# Altium footprint library Daxxn_Connectors.PcbLib: 65 footprints (part 3 of 5)
Each footprint in its own frame and in the unit in brackets; x right, y up, seen from the top. Pads: shape width x height; smd on the part's side, far side on the other; paste and mask are expansions set on the pad; w line width, h text height; cw(c..) or ccw(c..) is an arc to the next point about the centre after c.
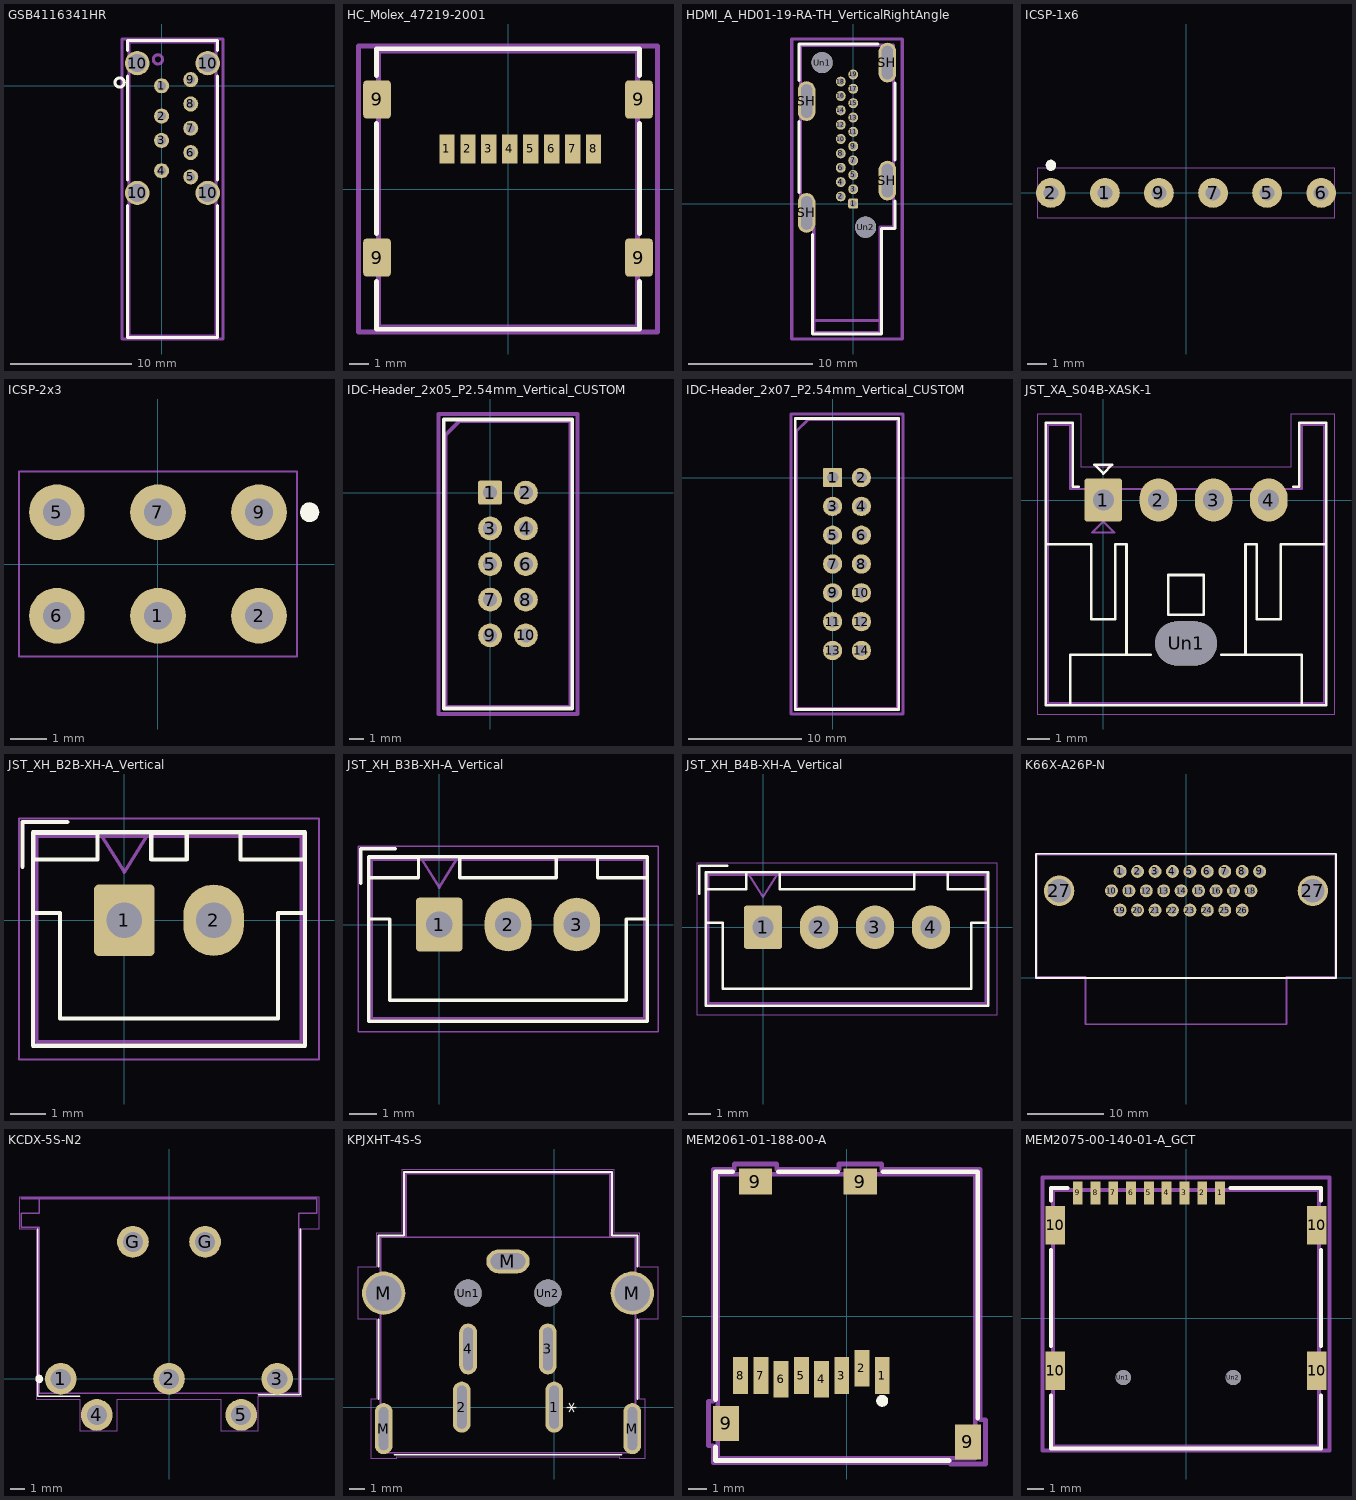
[diagram p2: the footprints below, top view; thin cyan lines are the x and y axes]

## GSB4116341HR [mm]
pads (13):
  round 1.24 hole 0.74: 1(0,0) 2(0,-2.5) 3(0,-4.5) 4(0,-7) 5(2.4,-7.5) 6(2.4,-5.5) 7(2.4,-3.5) 8(2.4,-1.5) 9(2.4,0.5)
  round 2.007 hole 1.499: 10(-2,1.87) 10(-2,-8.83) 10(3.8,-8.83) 10(3.8,1.87)
F.SilkS:
  circle w0.254: c-3.456,0.27 r0.381
  lines w0.254: -2.821,-9.884 -2.821,-20.733 4.621,-20.733 4.621,-9.884 ; -2.821,-7.776 -2.821,0.816 ; -2.821,2.924 -2.821,3.727 4.621,3.727 4.621,2.924 ; 4.621,-7.776 4.621,0.816
B.SilkS:
  circle w0.254: c-3.456,0.27 r0.381
F.CrtYd:
  lines w0.254: -3.257,-20.86 -3.257,3.854 5.057,3.854 5.057,-20.86 -3.257,-20.86
F.Fab:
  circle w0.254: c-0.3,2.175 r0.381
  lines w0.254: -2.694,-20.606 -2.694,3.6 4.494,3.6 4.494,-20.606 -2.694,-20.606

## HC_Molex_47219-2001 [mm]
pads (12):
  rect 0.8x1.5 smd: 1(-3.205,2.1) 2(-2.105,2.1) 3(-1.005,2.1) 4(0.095,2.1) 5(1.195,2.1) 6(2.295,2.1) 7(3.395,2.1) 8(4.495,2.1)
  rrect25% 1.45x2 smd: 9(-6.875,-3.6) 9(-6.875,4.7) 9(6.875,-3.6) 9(6.875,4.7)
F.SilkS:
  lines w0.254: -6.91,-4.86 -6.91,-7.36 6.91,-7.36 6.91,-4.86 ; -6.91,-2.34 -6.91,3.44 ; -6.91,5.96 -6.91,7.36 6.91,7.36 6.91,5.96 ; 6.91,-2.34 6.91,3.44
F.CrtYd:
  lines w0.254: -7.85,-7.5 -7.85,7.5 7.85,7.5 7.85,-7.5 -7.85,-7.5
F.Fab:
  lines w0.254: -6.8,-7.25 -6.8,7.25 6.8,7.25 6.8,-7.25 -6.8,-7.25
  text "'.Designator'" at -4.047,-0.84 h1

## HDMI_A_HD01-19-RA-TH_VerticalRightAngle [mm]
pads (25):
  rrect31% 0.8x0.8 hole 0.55: 1(0,0)
  round 0.8 hole 0.55: 2(-1,0.577) 3(0,1.155) 4(-1,1.733) 5(0,2.31) 6(-1,2.887) 7(0,3.465) 8(-1,4.042) 9(0,4.62) 10(-1,5.198) 11(0,5.775) 12(-1,6.352) 13(0,6.93) 14(-1,7.508) 15(0,8.085) 16(-1,8.662) 17(0,9.24) 18(-1,9.817) 19(0,10.395)
  rrect100% 1.4x3.2 hole 2.7 slot 0.9 at 0 deg: SH(-3.75,-0.75) SH(-3.75,8.25) SH(2.75,1.85) SH(2.75,11.35)
  round 1.7 hole 1.7: Un1(-2.5,11.35) Un2(1,-1.9)
F.SilkS:
  lines w0.254: -4.36,0.9 -4.36,6.6 ; -4.36,9.9 -4.36,12.86 2,12.86 ; -3.285,-2.5 -3.285,-10.51 2.285,-10.51 2.285,-2.01 3.36,-2.01 3.36,0.2 ; 3.36,3.5 3.36,9.7
Dwgs.User:
  lines w0.254: -3.175,-9.4 2.175,-9.4
  text "PCB Edge" at -3.947,-9.317 h1
F.CrtYd:
  lines w0.254: -4.95,-10.9 -4.95,13.25 3.95,13.25 3.95,-10.9 -4.95,-10.9
F.Fab:
  lines w0.254: -4.25,-1.9 -4.25,12.75 3.25,12.75 3.25,-1.9 2.175,-1.9 2.175,-10.4 -3.175,-10.4 -3.175,-1.9 -4.25,-1.9
  text "'.Designator'" at -4.547,-4.84 h1

## ICSP-1x6 [mil]
pads (6):
  round 60 hole 30: 1(-163.58,0) 2(-272.64,0) 5(163.58,0) 6(272.64,0) 7(54.53,0) 9(-54.53,0)
F.SilkS:
  circle w0: c-272.64,55.91 r10
  region: -268.74,65.33 -265.43,63.12 -263.22,59.81 -262.44,55.91 -263.22,52 -265.43,48.7 -268.74,46.49 -272.64,45.71 -276.54,46.49 -279.85,48.7 -282.06,52 -282.83,55.91 -282.06,59.81 -279.85,63.12 -276.54,65.33 -272.64,66.1
F.CrtYd:
  lines w1.97: -300,-50 -300,50 300,50 300,-50 -300,-50
F.Fab:
  text "'.Designator'" at -159.32,22.82 h39.37

## ICSP-2x3 [mil]
pads (6):
  round 60 hole 30: 1(0,-55.91) 2(109.06,-55.91) 5(-109.06,55.91) 6(-109.06,-55.91) 7(0,55.91) 9(109.06,55.91)
F.SilkS:
  circle w0: c163.58,55.91 r10
  region: 167.48,65.33 170.79,63.12 173,59.81 173.78,55.91 173,52 170.79,48.7 167.48,46.49 163.58,45.71 159.68,46.49 156.37,48.7 154.16,52 153.39,55.91 154.16,59.81 156.37,63.12 159.68,65.33 163.58,66.1
F.CrtYd:
  lines w1.97: -150,-100 -150,100 150,100 150,-100 -150,-100
F.Fab:
  text "'.Designator'" at -159.32,131.48 h39.37

## IDC-Header_2x05_P2.54mm_Vertical_CUSTOM [mm]
pads (10):
  rrect15% 1.7x1.7 hole 1: 1(0,0)
  round 1.7 hole 1: 2(2.54,0) 3(0,-2.54) 4(2.54,-2.54) 5(0,-5.08) 6(2.54,-5.08) 7(0,-7.62) 8(2.54,-7.62) 9(0,-10.16) 10(2.54,-10.16)
F.SilkS:
  lines w0.254: -3.29,-15.37 -3.29,5.21 5.83,5.21 5.83,-15.37 -3.29,-15.37
B.SilkS:
  lines w0.254: -2.3,-0.5 -2.3,0.5 -1.3,0 -2.3,-0.5
F.CrtYd:
  lines w0.254: -3.68,-15.76 -3.68,5.6 6.22,5.6 6.22,-15.76 -3.68,-15.76
F.Fab:
  lines w0.254: -3.18,-15.26 -3.18,4.1 -2.18,5.1 5.72,5.1 5.72,-15.26 -3.18,-15.26
  text "'.Designator'" at 0.233,-0.235 h0.25

## IDC-Header_2x07_P2.54mm_Vertical_CUSTOM [mm]
pads (14):
  rrect15% 1.7x1.7 hole 1: 1(0,0)
  round 1.7 hole 1: 2(2.54,0) 3(0,-2.54) 4(2.54,-2.54) 5(0,-5.08) 6(2.54,-5.08) 7(0,-7.62) 8(2.54,-7.62) 9(0,-10.16) 10(2.54,-10.16) 11(0,-12.7) 12(2.54,-12.7) 13(0,-15.24) 14(2.54,-15.24)
F.SilkS:
  lines w0.254: -3.29,-20.45 -3.29,5.21 5.83,5.21 5.83,-20.45 -3.29,-20.45
B.SilkS:
  lines w0.254: -2.3,-0.5 -2.3,0.5 -1.3,0 -2.3,-0.5
F.CrtYd:
  lines w0.254: -3.68,-20.84 -3.68,5.6 6.22,5.6 6.22,-20.84 -3.68,-20.84
F.Fab:
  lines w0.254: -3.18,-20.34 -3.18,4.1 -2.18,5.1 5.72,5.1 5.72,-20.34 -3.18,-20.34
  text "'.Designator'" at 0.233,-0.875 h0.25

## JST_XA_S04B-XASK-1 [mm]
pads (5):
  rrect15% 1.7x1.95 hole 0.95: 1(0,0)
  rrect100% 1.7x1.95 hole 0.95: 2(2.5,0) 3(5,0) 4(7.5,0)
  rrect100% 2.8x2 hole 2 slot 2.8 at 0 deg: Un1(3.75,-6.5)
F.SilkS:
  lines w0.12: -2.61,-2 -0.55,-2 -0.55,-5.41 0.55,-5.41 0.55,-2 1.05,-2 1.05,-7.01 ; -1.5,-9.31 -1.5,-7.01 2.15,-7.01 ; -1.11,0.61 -1.39,0.61 -1.39,3.51 -2.61,3.51 -2.61,-9.31 10.11,-9.31 10.11,3.51 8.89,3.51 8.89,0.61 8.61,0.61 ; 5.35,-7.01 9,-7.01 9,-9.31 ; 6.45,-7.01 6.45,-2 6.95,-2 6.95,-5.41 8.05,-5.41 8.05,-2 10.11,-2 ; -0.4,1.6 0.4,1.6 0,1.2 -0.4,1.6 ; 2.95,-5.2 4.55,-5.2 4.55,-3.4 2.95,-3.4 2.95,-5.2
F.CrtYd:
  lines w0.05: -3,-9.7 -3,3.9 -1,3.9 -1,1.48 8.5,1.48 8.5,3.9 10.5,3.9 10.5,-9.7 -3,-9.7
F.Fab:
  lines w0.1: -2.5,-9.2 -2.5,3.4 -1.5,3.4 -1.5,0.5 9,0.5 9,3.4 10,3.4 10,-9.2 -2.5,-9.2 ; -0.5,-1.475 0,-0.975 0.5,-1.475 -0.5,-1.475
  text "'.Designator'" at -0.297,-3.34 h1

## JST_XH_B2B-XH-A_Vertical [mm]
pads (2):
  rrect15% 1.7x2 hole 1: 1(0,0)
  rrect100% 1.7x2 hole 1: 2(2.5,0)
F.SilkS:
  lines w0.12: -2.85,1.5 -2.85,2.75 -1.6,2.75 ; -2.55,0.2 -1.8,0.2 -1.8,-2.75 1.25,-2.75 4.3,-2.75 4.3,0.2 5.05,0.2 ; -2.56,-3.51 -2.56,2.46 5.06,2.46 5.06,-3.51 -2.56,-3.51 ; -2.55,1.7 -2.55,2.45 -0.75,2.45 -0.75,1.7 -2.55,1.7 ; 0.75,1.7 0.75,2.45 1.75,2.45 1.75,1.7 0.75,1.7 ; 3.25,1.7 5.05,1.7 5.05,2.45 3.25,2.45 3.25,1.7
F.CrtYd:
  lines w0.05: -2.95,-3.9 5.45,-3.9 5.45,2.85 -2.95,2.85 -2.95,-3.9
F.Fab:
  lines w0.1: -0.625,2.35 0,1.35 0.625,2.35 ; -2.45,-3.4 -2.45,2.35 4.95,2.35 4.95,-3.4 -2.45,-3.4
  text "'.Designator'" at -2.797,-3.54 h1

## JST_XH_B3B-XH-A_Vertical [mm]
pads (3):
  rrect15% 1.7x1.95 hole 0.95: 1(0,0)
  rrect100% 1.7x1.95 hole 0.95: 2(2.5,0) 3(5,0)
F.SilkS:
  lines w0.12: -2.85,1.5 -2.85,2.75 -1.6,2.75 ; -2.55,0.2 -1.8,0.2 -1.8,-2.75 2.5,-2.75 6.8,-2.75 6.8,0.2 7.55,0.2 ; -2.56,-3.51 -2.56,2.46 7.56,2.46 7.56,-3.51 -2.56,-3.51 ; -2.55,1.7 -2.55,2.45 -0.75,2.45 -0.75,1.7 -2.55,1.7 ; 0.75,1.7 0.75,2.45 4.25,2.45 4.25,1.7 0.75,1.7 ; 5.75,1.7 5.75,2.45 7.55,2.45 7.55,1.7 5.75,1.7
F.CrtYd:
  lines w0.05: -2.95,-3.9 7.95,-3.9 7.95,2.85 -2.95,2.85 -2.95,-3.9
F.Fab:
  lines w0.1: -0.625,2.35 0,1.35 0.625,2.35 ; -2.45,-3.4 7.45,-3.4 7.45,2.35 -2.45,2.35 -2.45,-3.4
  text "'.Designator'" at -1.547,-3.54 h1

## JST_XH_B4B-XH-A_Vertical [mm]
pads (4):
  rrect15% 1.7x1.95 hole 0.95: 1(0,0)
  rrect100% 1.7x1.95 hole 0.95: 2(2.5,0) 3(5,0) 4(7.5,0)
F.SilkS:
  lines w0.12: -2.85,1.5 -2.85,2.75 -1.6,2.75 ; -2.55,0.2 -1.8,0.2 -1.8,-2.75 3.75,-2.75 9.3,-2.75 9.3,0.2 10.05,0.2 ; -2.56,-3.51 10.06,-3.51 10.06,2.46 -2.56,2.46 -2.56,-3.51 ; -2.55,1.7 -2.55,2.45 -0.75,2.45 -0.75,1.7 -2.55,1.7 ; 0.75,1.7 6.75,1.7 6.75,2.45 0.75,2.45 0.75,1.7 ; 8.25,1.7 10.05,1.7 10.05,2.45 8.25,2.45 8.25,1.7
F.CrtYd:
  lines w0.05: -2.95,-3.9 -2.95,2.85 10.45,2.85 10.45,-3.9 -2.95,-3.9
F.Fab:
  lines w0.1: -0.625,2.35 0,1.35 0.625,2.35 ; -2.45,-3.4 -2.45,2.35 9.95,2.35 9.95,-3.4 -2.45,-3.4
  text "'.Designator'" at -0.297,-3.54 h1

## K66X-A26P-N [mm]
pads (28):
  round 1.7 hole 1.09: 1(-8.65,13.97) 2(-6.36,13.97) 3(-4.07,13.97) 4(-1.78,13.97) 5(0.51,13.97) 6(2.8,13.97) 7(5.09,13.97) 8(7.38,13.97) 9(9.67,13.97) 10(-9.795,11.43) 11(-7.505,11.43) 12(-5.215,11.43) 13(-2.925,11.43) 14(-0.635,11.43) 15(1.655,11.43) 16(3.945,11.43) 17(6.235,11.43) 18(8.525,11.43) 19(-8.65,8.89) 20(-6.36,8.89) 21(-4.07,8.89) 22(-1.78,8.89) 23(0.51,8.89) 24(2.8,8.89) 25(5.09,8.89) 26(7.38,8.89)
  round 4 hole 3.05: 27(-16.66,11.43) 27(16.66,11.43)
F.SilkS:
  lines w0.254: -19.7,0 -19.7,16.3 19.7,16.3 19.7,0 -19.7,0
B.SilkS:
  text "1" at -8.405,14.35 h0.8
  text "19" at -7.959,7.25 h0.8
  text "18" at 11.02,10.88 h0.8
  text "9" at 10.068,14.35 h0.8
  text "10" at -10.95,10.88 h0.8
  text "26" at 8.134,7.25 h0.8
Dwgs.User:
  lines w0.254: -5.1,0 5.1,0
  text "CONN FACE" at -3.351,-0.55 h0.8
F.Fab:
  lines w0.254: -19.6,0.1 -19.6,16.2 19.6,16.2 19.6,0.1 13.2,0.1 13.2,-6.1 -13.2,-6.1 -13.2,0.1 -19.6,0.1
  text "'.Designator'" at -4.047,5.96 h1

## KCDX-5S-N2 [mm]
pads (7):
  round 2.2 hole 1.4: 1(-7.5,0) 2(0,0) 3(7.5,0) 4(-5,-2.5) 5(5,-2.5) G(-2.5,9.5) G(2.5,9.5)
F.SilkS:
  circle w0: c-9,0 r0.25
  region: -8.902,0.235 -8.82,0.18 -8.765,0.098 -8.745,0 -8.765,-0.098 -8.82,-0.18 -8.902,-0.235 -9,-0.255 -9.098,-0.235 -9.18,-0.18 -9.235,-0.098 -9.255,0 -9.235,0.098 -9.18,0.18 -9.098,0.235 -9,0.255
  lines w0.12: -9.1,10.4 -9.1,-1.2 -6.2,-1.2 ; 6.2,-1.1 9.1,-1.1 9.1,10.4
F.CrtYd:
  lines w0.05: -10.4,10.4 -9.2,10.4 -9.2,-1.4 -6.2,-1.4 -6.2,-3.6 -3.6,-3.6 -3.6,-1.4 3.6,-1.4 3.6,-3.6 6.2,-3.6 6.2,-1.2 9.2,-1.2 9.2,10.4 10.4,10.4 10.4,12.6 -10.4,12.6 -10.4,10.4
F.Fab:
  lines w0.1: -10.25,10.5 -9,10.5 -9,-1 9,-1 9,11.5 10.25,11.5 10.25,12.5 -9,12.5 -9,11.5 -10.25,11.5 -10.25,10.5
  text "'.Designator'" at -4.047,3.16 h1
Cmts.User:
  lines w0.12: -10.25,12.5 10.25,12.5
  text "CONN FACE" at -1.063,11.813 h0.25

## KPJXHT-4S-S [mil]
pads (11):
  rrect100% 44x126 hole 106.3 slot 23.62 at 0 deg: 1(0,0) 2(-228.35,0) 3(-15.74,143.7) M(-421.26,-53.15) M(192.91,-53.15)
  rrect100% 44.09x125.98 hole 106.3 slot 23.62 at 0 deg: 4(-212.59,143.7)
  round 107 hole 87: M(-421.26,281.5) M(192.91,281.5)
  rrect100% 107x59 hole 39 slot 86.61 at 0 deg: M(-114.17,360.24)
  round 67 hole 67: Un1(-212.6,281.5) Un2(-15.75,281.49)
F.SilkS:
  lines w4.72: -434.17,20.49 -434.17,216.16 ; -434.17,346.83 -434.17,424.29 -371.17,424.29 -371.17,581.29 142.83,581.29 142.83,424.29 205.83,424.29 205.83,346.83 ; -395.24,-117.71 166.89,-117.71 ; 205.83,20.49 205.83,216.16
  text "*" at 72.27,-15.67 h39.37
F.CrtYd:
  lines w1.97: -484.76,218 -439.17,218 -439.17,19.85 -453.26,19.85 -453.26,-126.15 -389.26,-126.15 -389.26,-122.71 160.91,-122.71 160.91,-126.15 224.91,-126.15 224.91,19.85 210.83,19.85 210.83,218 256.41,218 256.41,345 210.83,345 210.83,429.29 147.83,429.29 147.83,586.29 -376.17,586.29 -376.17,429.29 -439.17,429.29 -439.17,345 -484.76,345 -484.76,218
F.Fab:
  lines w3.94: -366.17,419.29 -366.17,576.29 137.83,576.29 137.83,419.29 ; -429.17,-112.71 -429.17,419.29 200.83,419.29 200.83,-112.71 -429.17,-112.71

## MEM2061-01-188-00-A [mil]
pads (12):
  rect 32x79 smd: 1(76.38,-127.1) 2(33.07,-111.35) 3(-10.24,-127.1) 4(-53.54,-134.98) 5(-96.85,-127.1) 6(-140.16,-134.98) 7(-183.46,-127.1) 8(-226.77,-127.1)
  rect 55x75 smd: 9(-257.87,-229.46) 9(259.84,-268.83)
  rect 71x55 smd: 9(-194.88,288.25) 9(29.53,288.25)
F.SilkS:
  circle w10: c76.38,-181.1 r7.87
  region: 79.45,-173.69 82.05,-175.43 83.8,-178.03 84.41,-181.1 83.8,-184.17 82.05,-186.78 79.45,-188.52 76.38,-189.13 73.31,-188.52 70.7,-186.78 68.96,-184.17 68.35,-181.1 68.96,-178.03 70.7,-175.43 73.31,-173.69 76.38,-173.07
  lines w10: -280.5,-280.06 -280.5,-309 219.52,-309 ; -280.5,-178.86 -280.5,309 -243.48,309 ; -146.28,309 -19.07,309 ; 78.13,309 280.5,309 280.5,-218.23
F.CrtYd:
  lines w10: -295.37,-276.96 -295.37,-181.96 -285.5,-181.96 -285.5,314 -240.38,314 -240.38,325.75 -149.38,325.75 -149.38,314 -15.97,314 -15.97,325.75 75.03,325.75 75.03,314 285.5,314 285.5,-221.33 297.34,-221.33 297.34,-316.33 222.34,-316.33 222.34,-314 -285.5,-314 -285.5,-276.96 -295.37,-276.96
F.Fab:
  lines w10: -275.5,-304 -275.5,304 275.5,304 275.5,-304 -275.5,-304

## MEM2075-00-140-01-A_GCT [mm]
pads (15):
  rect 0.61x1.4 smd: 1(2.105,7.745) 2(1.005,7.745) 3(-0.095,7.745) 4(-1.195,7.745) 5(-2.295,7.745) 6(-3.395,7.745) 7(-4.495,7.745) 8(-5.595,7.745) 9(-6.695,7.745)
  rect 1.2x2.4 smd: 10(-8.075,-3.25) 10(-8.075,5.75) 10(8.075,-3.25) 10(8.075,5.75)
  round 0.94 hole 0.94: Un1(-3.875,-3.675) Un2(2.925,-3.675)
F.SilkS:
  lines w0.254: -8.344,-4.782 -8.344,-8.052 8.344,-8.052 8.344,-4.782 ; -8.344,-1.729 -8.344,4.218 ; -8.344,7.271 -8.344,8.052 -7.333,8.052 ; 2.743,8.052 8.344,8.052 8.344,7.271 ; 8.344,-1.729 8.344,4.218
F.CrtYd:
  lines w0.254: -8.875,-8.179 -8.875,8.697 8.875,8.697 8.875,-8.179 -8.875,-8.179
F.Fab:
  lines w0.254: -8.217,-7.925 -8.217,7.925 8.217,7.925 8.217,-7.925 -8.217,-7.925
  text "'.Designator'" at -1.037,0.065 h0.25